# Altium schematic symbol library LM290.SchLib: 1 symbol
Pins are listed as number, name and electrical type; pins without a type are passive.

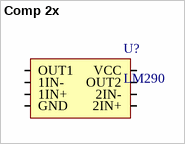
[diagram p0: symbol Comp 2x]

## Comp 2x
designator U?, comment LM290
LM290 SOIC-8; ComponentLink1Description: DataSheet; ComponentLink1URL: https://static.chipdip.ru/lib/938/DOC011938774.pdf; ComponentLink2Description: ChipDip; ComponentLink2URL: https://www.chipdip.ru/product/lm2903d-stm
footprint SOIC-8
pins: 1 OUT1, 2 1IN-, 3 1IN+, 4 GND, 5 2IN+, 6 2IN-, 7 OUT2, 8 VCC